# EAGLE library part 18_PIN_100MIL_HEADER (library Barker_project_02)
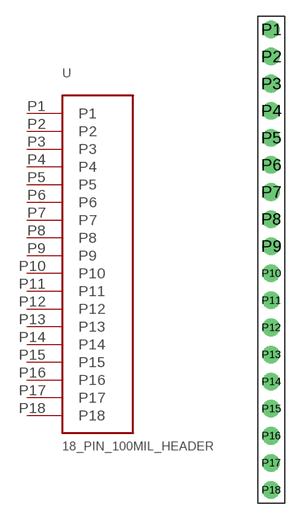
[diagram p0: symbol with the pads of 18_PIN_100MIL_HEADER; footprint 18_PIN_100MIL_HEADER]

Designator prefix -

## 18_PIN_100MIL_HEADER  [18_PIN_100MIL_HEADER]
P1  P1
P2  P2
P3  P3
P4  P4
P5  P5
P6  P6
P7  P7
P8  P8
P9  P9
P10  P10
P11  P11
P12  P12
P13  P13
P14  P14
P15  P15
P16  P16
P17  P17
P18  P18

## Footprint 18_PIN_100MIL_HEADER (pad centres in mm)
drill 0.889 pad 1.651: P1 0,2.54; P2 0,0; P3 0,-2.54; P4 0,-5.08; P5 0,-7.62; P6 0,-10.16; P7 0,-12.7; P8 0,-15.24; P9 0,-17.78; P10 0,-20.32; P11 0,-22.86; P12 0,-25.4; P13 0,-27.94; P14 0,-30.48; P15 0,-33.02; P16 0,-35.56; P17 0,-38.1; P18 0,-40.64